# Altium footprint library TransistorThyristor_SMD.PcbLib: 50 footprints (part 1 of 4)
Each footprint in its own frame and in the unit in brackets; x right, y up, seen from the top. Pads: shape width x height; smd on the part's side, far side on the other; paste and mask are expansions set on the pad; w line width, h text height; cw(c..) or ccw(c..) is an arc to the next point about the centre after c.
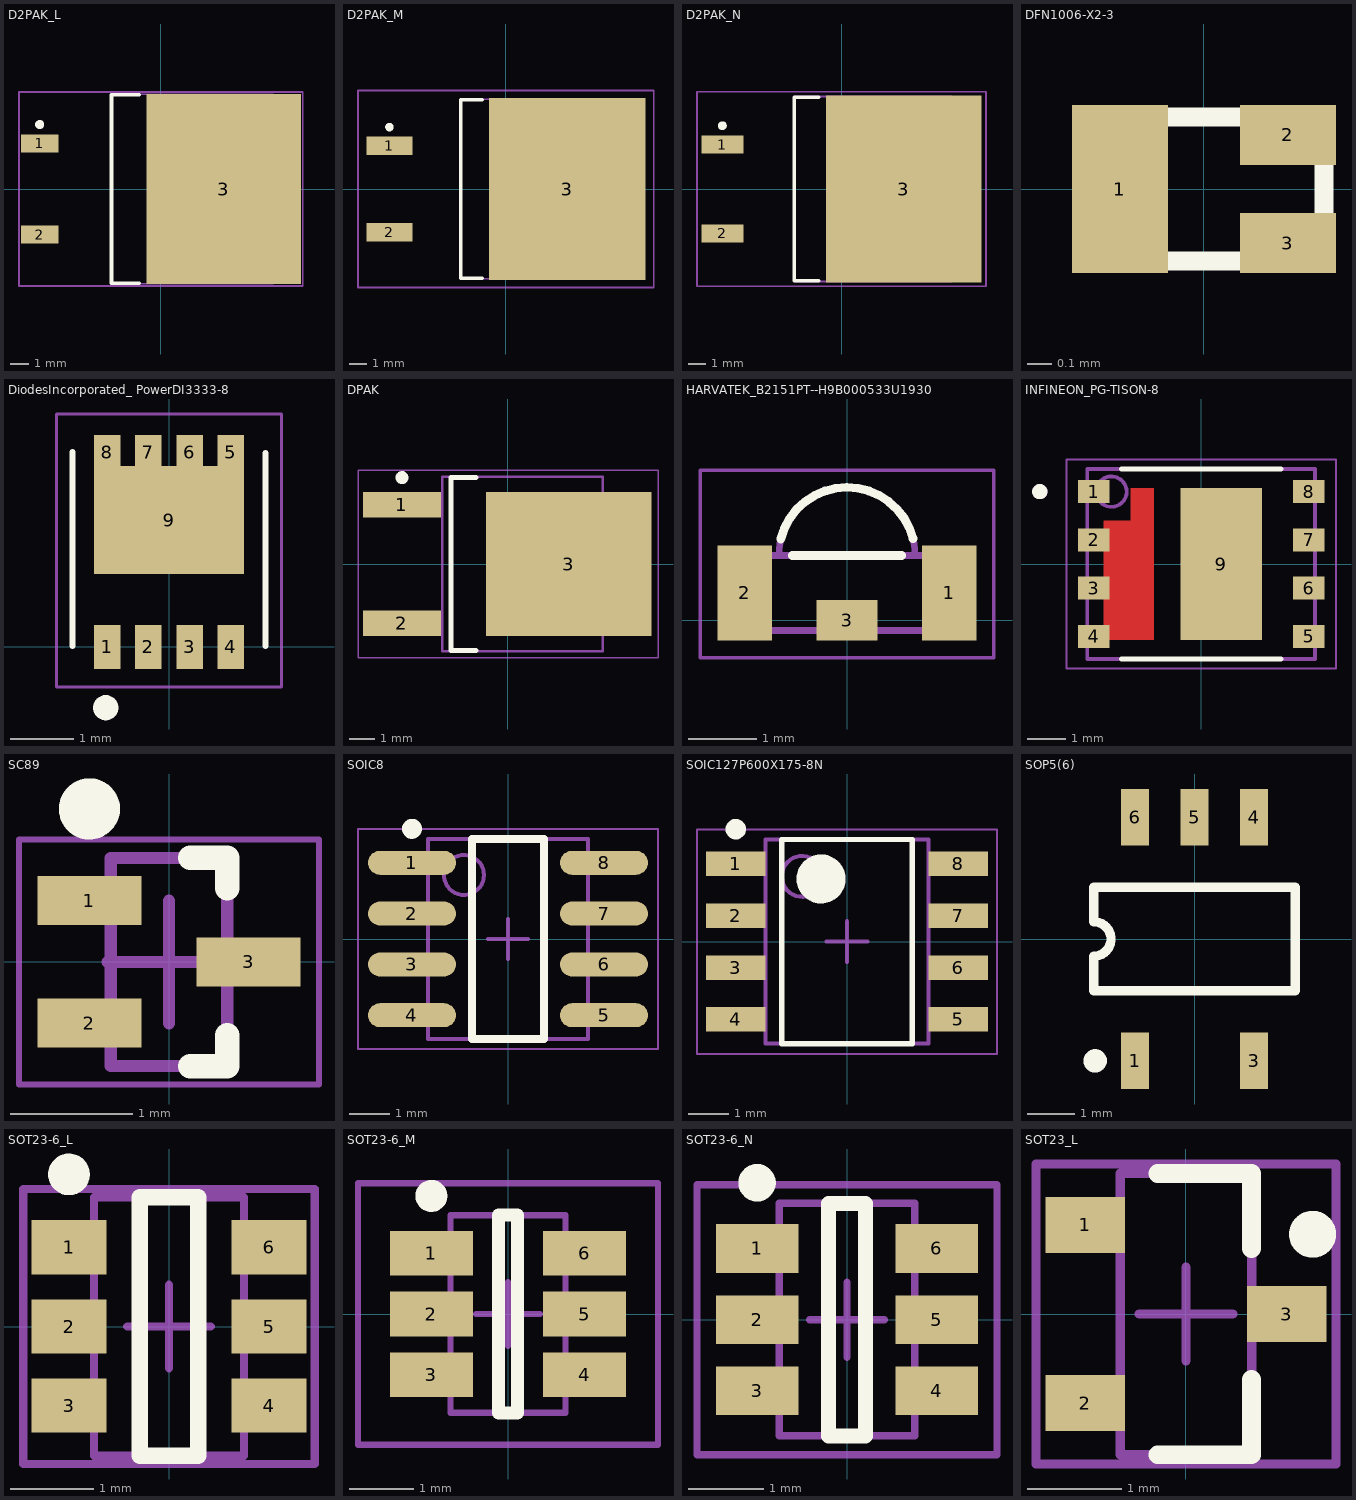
[diagram p0: the footprints below, top view; thin cyan lines are the x and y axes]

## D2PAK_L [mm] "D2-PAK, 4-Leads, Body 8.8x10.4mm, Pitch 2.54mm, Lead Span 15.1mm, IPC High Density"
height 4.69
pads (3):
  rect 2.1x1 smd: 1(-6.75,2.54) 2(-6.75,-2.54)
  rect 8.6x10.6 smd: 3(3.5,0)
Top Overlay:
  circle w0.25: c-6.75,3.59 r0.125
  lines w0.2: -1.2,-5.25 -2.75,-5.25 -2.75,5.25 -1.2,5.25
Mechanical 13:
  lines w0.1: -2.75,-5.275 6.25,-5.275 6.25,5.275 -2.75,5.275 -2.75,-5.275
Mechanical 15:
  lines w0.1: -0.5,0 0.5,0 ; 0,-0.5 0,0.5 ; -7.9,-5.4 7.9,-5.4 7.9,5.4 -7.9,5.4 -7.9,-5.4
3D body "User Library-DPAK.step": height 4.98, standoff -0.04, extent -7.511,-5.08 7.753,5.08

## D2PAK_M [mm] "D2-PAK, 4-Leads, Body 8.8x10.4mm, Pitch 2.54mm, Lead Span 15.1mm, IPC Low Density"
height 4.69
pads (3):
  rect 2.7x1.1 smd: 1(-6.85,2.54) 2(-6.85,-2.54)
  rect 9.2x10.7 smd: 3(3.6,0)
Top Overlay:
  circle w0.25: c-6.85,3.64 r0.125
  lines w0.2: -1.4,-5.25 -2.65,-5.25 -2.65,5.25 -1.4,5.25
Mechanical 13:
  lines w0.1: -2.65,-5.275 6.35,-5.275 6.35,5.275 -2.65,5.275 -2.65,-5.275
Mechanical 15:
  lines w0.1: -0.5,0 0.5,0 ; 0,-0.5 0,0.5 ; -8.7,-5.8 8.7,-5.8 8.7,5.8 -8.7,5.8 -8.7,-5.8
3D body "User Library-DPAK.step": height 4.98, standoff -0.04, extent -7.892,-5.08 7.372,5.08

## D2PAK_N [mm] "D2-PAK, 4-Leads, Body 8.8x10.4mm, Pitch 2.54mm, Lead Span 15.1mm, IPC Medium Density"
height 4.69
pads (3):
  rect 2.4x1.05 smd: 1(-6.8,2.54) 2(-6.8,-2.54)
  rect 8.9x10.65 smd: 3(3.55,0)
Top Overlay:
  circle w0.25: c-6.8,3.615 r0.125
  lines w0.2: -1.3,-5.25 -2.7,-5.25 -2.7,5.25 -1.3,5.25
Mechanical 13:
  lines w0.1: -2.7,-5.275 6.3,-5.275 6.3,5.275 -2.7,5.275 -2.7,-5.275
Mechanical 15:
  lines w0.1: -0.5,0 0.5,0 ; 0,-0.5 0,0.5 ; -8.25,-5.55 8.25,-5.55 8.25,5.55 -8.25,5.55 -8.25,-5.55
3D body "User Library-DPAK.step": height 4.98, standoff -0.04, extent -7.765,-5.08 7.499,5.08

## DFN1006-X2-3 [mm]
pads (3):
  rect 0.4x0.7 smd: 1(-0.35,0)
  rect 0.4x0.25 smd: 2(0.35,0.225) 3(0.35,-0.225)
Top Overlay:
  lines w0.08: -0.5,-0.3 -0.5,0.3 0.5,0.3 0.5,-0.3 -0.5,-0.3
3D body: height 0.5, standoff 0, extent -0.559,-0.356 0.559,0.356

## DiodesIncorporated_ PowerDI3333-8 [mm] "P-Channel 30 V 12A (Ta), 35A (Tc) 940mW (Ta) Surface Mount PowerDI3333-8 (Type UX)"
pads (9):
  rect 0.42x0.7 smd: 1(-0.975,0) 2(-0.325,0) 3(0.325,0) 4(0.975,0)
  rect 0.42x0.54 smd: 5(0.975,3.08) 6(0.325,3.08) 7(-0.325,3.08) 8(-0.975,3.08)
  rect 2.37x1.71 smd: 9(0,2.005)
Top Overlay:
  lines w0.1: -1.525,0.015 -1.525,3.08 ; 1.525,0.015 1.525,3.065
  lines w0.2: -1,-1.06 ccw(c-1,-0.96) -1,-0.86 ccw(c-1,-0.96) -1,-1.06
Mechanical 15:
  lines w0.05: -1.778,-0.635 -1.778,3.683 1.778,3.683 1.778,-0.635 -1.778,-0.635
3D body "DMP3013SFV-7.stp": height 0.85, standoff 0.05, extent -1.65,-0.15 1.65,3.15

## DPAK [mm] "D-PAK, 3-Pads, Body 6.21x6.73mm (max), IPC Medium Density"
height 2.38
pads (3):
  rect 3x1 smd: 1(-4.1,2.29) 2(-4.1,-2.29)
  rect 6.4x5.55 smd: 3(2.35,0)
Top Overlay:
  circle w0.25: c-4.1,3.34 r0.125
  lines w0.2: -1.25,-3.35 -2.2,-3.35 -2.2,3.35 -1.25,3.35
Mechanical 13:
  lines w0.1: -2.55,-3.375 -2.55,3.375 3.67,3.375 3.67,-3.375 -2.55,-3.375
Mechanical 15:
  lines w0.05: -5.8,-3.625 -5.8,3.625 5.8,3.625 5.8,-3.625 -5.8,-3.625
  lines w0.1: -0.5,0 0.5,0 ; 0,-0.5 0,0.5
3D body "DPAK.step": height 2.38, standoff 0, extent -4.6,-3.375 5.305,3.375

## HARVATEK_B2151PT--H9B000533U1930 [mm] "2-SMD"
pads (3):
  rect 0.8x1.4 smd: 1(1.5,0.4) 2(-1.5,0.4)
  rect 0.9x0.6 smd: 3(0,0)
Top Overlay:
  lines w0.127: -0.97,1.193 cw(c0,0.95) 0.969,1.198 ; -0.8,0.95 0.8,0.95
Mechanical 1:
  lines w0.1: -1,0.95 cw(c0,0.95) 1,0.95 ; -1.5,-0.15 -1.5,0.95 1.5,0.95 1.5,-0.15 -1.5,-0.15
Mechanical 15:
  lines w0.05: -2.15,-0.55 2.15,-0.55 2.15,2.2 -2.15,2.2 -2.15,-0.55
3D body "Download_STP_WL-SISW-15411494AA570 (rev1).stp": height 1, standoff 0, extent -1.5,-0.15 1.5,1.843

## INFINEON_PG-TISON-8 [mm] "8-PowerTDFN, 1.27 PITCH, N-CHANNEL , HALF BRIDGE"
pads (9):
  rect 0.83x0.61 smd paste-0.415 mask+0: 1(-2.835,1.905) 2(-2.835,0.635) 3(-2.835,-0.635) 4(-2.835,-1.905) 5(2.835,-1.905) 6(2.835,-0.635) 7(2.835,0.635) 8(2.835,1.905)
  rect 2.15x4 smd paste-1.075 mask+0: 9(0.525,0)
Top Layer:
  region: -1.25,-2 -1.25,2 -1.85,2 -1.85,1.14 -2.57,1.14 -2.57,-2
Top Overlay:
  circle w0.2: c-4.25,1.905 r0.1
  lines w0.127: -2.1,-2.5 2.1,-2.5 ; -2.1,2.5 2.1,2.5
Top Paste:
  drawing of 21 lines, arcs and shapes, not listed
Mechanical 13:
  circle w0.2: c-4.25,1.905 r0.1
  circle w0.1: c-2.362,1.905 r0.4
  lines w0.1: -3,-2.5 3,-2.5 3,2.5 -3,2.5 -3,-2.5
Mechanical 15:
  lines w0.05: -3.55,-2.75 3.55,-2.75 3.55,2.75 -3.55,2.75 -3.55,-2.75
  lines w0.1: -0.5,0 0.5,0 ; 0,-0.5 0,0.5
3D body "PG-TISON-8-2_Z8B00162740_V01_3D.stp": height 1.01, standoff 0, extent -3,-2.5 3,2.5

## SC89 [mm] "SC89, 3-Leads, Body 1.60x1.60mm, Pitch 0.50mm, IPC Medium Density"
height 0.8
pads (3):
  rect 0.85x0.4 smd: 1(-0.65,0.5) 2(-0.65,-0.5) 3(0.65,0)
Top Overlay:
  circle w0.25: c-0.65,1.25 r0.125
  lines w0.2: 0.175,-0.85 0.475,-0.85 0.475,-0.6 ; 0.175,0.85 0.475,0.85 0.475,0.6
Mechanical 13:
  lines w0.1: -0.475,-0.85 0.475,-0.85 0.475,0.85 -0.475,0.85 -0.475,-0.85
Mechanical 15:
  lines w0.05: -1.225,-1 1.225,-1 1.225,1 -1.225,1 -1.225,-1
  lines w0.1: -0.5,0 0.5,0 ; 0,-0.5 0,0.5
3D body "SC89.step": height 0.8, standoff 0, extent -0.8,-0.848 0.8,0.848

## SOIC8 [mm] "SOIC, 8-Leads, Body 4.9x3.9mm, Pitch 1.27mm, IPC Medium Density"
height 1.75
pads (8):
  oval 2.2x0.6 smd: 1(-2.4,1.905) 2(-2.4,0.635) 3(-2.4,-0.635) 4(-2.4,-1.905) 5(2.4,-1.905) 6(2.4,-0.635) 7(2.4,0.635) 8(2.4,1.905)
Top Overlay:
  circle w0.25: c-2.4,2.755 r0.125
  lines w0.2: -0.9,-2.5 -0.9,2.5 0.9,2.5 0.9,-2.5 -0.9,-2.5
Mechanical 13:
  circle w0.1: c-1.1,1.6 r0.5
  lines w0.1: -2,-2.5 -2,2.5 2,2.5 2,-2.5 -2,-2.5
Mechanical 15:
  lines w0.05: -3.75,-2.75 -3.75,2.75 3.75,2.75 3.75,-2.75 -3.75,-2.75
  lines w0.1: -0.5,0 0.5,0 ; 0,-0.5 0,0.5
3D body "SOIC8-1.step": height 1.75, standoff 0, extent -3,-2.45 3,2.45

## SOIC127P600X175-8N [mm] "SOIC, 8-Leads, Body 4,90x3,90mm, Pitch 1,27mm, IPC Medium Density"
height 1.75
pads (8):
  rect 1.45x0.6 smd: 1(-2.725,1.905) 2(-2.725,0.635) 3(-2.725,-0.635) 4(-2.725,-1.905) 5(2.725,-1.905) 6(2.725,-0.635) 7(2.725,0.635) 8(2.725,1.905)
Top Overlay:
  circle w0.6: c-0.637,1.536 r0.3
  circle w0.25: c-2.725,2.755 r0.125
  lines w0.127: -1.6,-2.5 1.6,-2.5 1.6,2.5 -1.6,2.5 -1.6,-2.5
Mechanical 13:
  circle w0.1: c-1.1,1.6 r0.5
  lines w0.1: -2,-2.5 2,-2.5 2,2.5 -2,2.5 -2,-2.5
Mechanical 15:
  lines w0.05: -3.675,-2.75 3.675,-2.75 3.675,2.75 -3.675,2.75 -3.675,-2.75
  lines w0.1: -0.5,0 0.5,0 ; 0,-0.5 0,0.5
3D body "SOIC127P600X175-8N.step": height 1.75, standoff 0, extent -3,-2.5 3,2.5

## SOP5(6) [mm] "Small Outline; 6 Leads (1 Absent); Body Width 4.4 mm; Pitch 1.27 mm"
height 2.4
pads (5):
  rect 0.6x1.2 smd: 1(-1.27,-2.6) 3(1.27,-2.6) 4(1.27,2.6) 5(0,2.6) 6(-1.27,2.6)
Top Overlay:
  circle w0.25: c-2.12,-2.6 r0.125
  lines w0.2: -2.15,-1.1 2.15,-1.1 2.15,1.1 -2.15,1.1 -2.15,0.367 cw(c-2.15,0) -2.15,-0.367 -2.15,-1.1

## SOT23-6_L [mm] "SOT23, 6-Leads, Body 2.9x1.6mm, Pitch 0.95mm, Lead Span 2.7mm, IPC High Density"
height 1.45
pads (6):
  rect 0.9x0.65 smd: 1(-1.2,0.95) 2(-1.2,0) 3(-1.2,-0.95) 4(1.2,-0.95) 5(1.2,0) 6(1.2,0.95)
Top Overlay:
  circle w0.25: c-1.2,1.825 r0.125
  lines w0.2: -0.35,-1.55 -0.35,1.55 0.35,1.55 0.35,-1.55 -0.35,-1.55
Mechanical 13:
  lines w0.1: -0.9,-1.55 0.9,-1.55 0.9,1.55 -0.9,1.55 -0.9,-1.55
Mechanical 15:
  lines w0.1: -0.5,0 0.5,0 ; 0,-0.5 0,0.5 ; -1.75,-1.65 1.75,-1.65 1.75,1.65 -1.75,1.65 -1.75,-1.65
3D body "User Library-SOT23-6-2.step": height 1.42, standoff -0.03, extent -1.4,-1.45 1.4,1.45

## SOT23-6_M [mm] "SOT23, 6-Leads, Body 2.9x1.6mm, Pitch 0.95mm, Lead Span 2.7mm, IPC Low Density"
height 1.45
pads (6):
  rect 1.3x0.7 smd: 1(-1.2,0.95) 2(-1.2,0) 3(-1.2,-0.95) 4(1.2,-0.95) 5(1.2,0) 6(1.2,0.95)
Top Overlay:
  circle w0.25: c-1.2,1.85 r0.125
  lines w0.2: -0.15,-1.55 0.15,-1.55 0.15,1.55 -0.15,1.55 -0.15,-1.55
Mechanical 13:
  lines w0.1: -0.9,-1.55 -0.9,1.55 0.9,1.55 0.9,-1.55 -0.9,-1.55
Mechanical 15:
  lines w0.1: -0.5,0 0.5,0 ; 0,-0.5 0,0.5 ; -2.35,-2.05 -2.35,2.05 2.35,2.05 2.35,-2.05 -2.35,-2.05
3D body "User Library-SOT23-6-2.step": height 1.42, standoff -0.03, extent -1.4,-1.45 1.4,1.45

## SOT23-6_N [mm] "SOT23, 6-Leads, Body 2.9x1.6mm, Pitch 0.95mm, Lead Span 2.7mm, IPC Medium Density"
height 1.45
pads (6):
  rect 1.1x0.65 smd: 1(-1.2,0.95) 2(-1.2,0) 3(-1.2,-0.95) 4(1.2,-0.95) 5(1.2,0) 6(1.2,0.95)
Top Overlay:
  circle w0.25: c-1.2,1.825 r0.125
  lines w0.2: -0.25,-1.55 -0.25,1.55 0.25,1.55 0.25,-1.55 -0.25,-1.55
Mechanical 13:
  lines w0.1: -0.9,-1.55 0.9,-1.55 0.9,1.55 -0.9,1.55 -0.9,-1.55
Mechanical 15:
  lines w0.1: -0.5,0 0.5,0 ; 0,-0.5 0,0.5 ; -2,-1.8 2,-1.8 2,1.8 -2,1.8 -2,-1.8
3D body "User Library-SOT23-6-2.step": height 1.42, standoff -0.03, extent -1.4,-1.45 1.4,1.45

## SOT23_L [mm] "SOT23, 3-Leads, Body 2.9x1.3mm, Pitch 0.95mm, Lead Span 2.3mm - Reverse Pinning, IPC High Density"
height 1.1
pads (3):
  rect 0.85x0.6 smd: 1(-1.075,0.95) 2(-1.075,-0.95) 3(1.075,0)
Top Overlay:
  circle w0.25: c1.35,0.85 r0.125
  lines w0.2: -0.3,-1.5 0.7,-1.5 0.7,-0.7 ; -0.3,1.5 0.7,1.5 0.7,0.7
Mechanical 13:
  lines w0.1: -0.7,-1.5 -0.7,1.5 0.7,1.5 0.7,-1.5 -0.7,-1.5
Mechanical 15:
  lines w0.1: -0.5,0 0.5,0 ; 0,-0.5 0,0.5 ; -1.6,-1.6 -1.6,1.6 1.6,1.6 1.6,-1.6 -1.6,-1.6
3D body "User Library-3-lead sot23-3.step": height 0.98, standoff -0.04, extent -1.25,-1.46 1.226,1.46